# EAGLE library part AT32UC3C (library 1_spektrak)
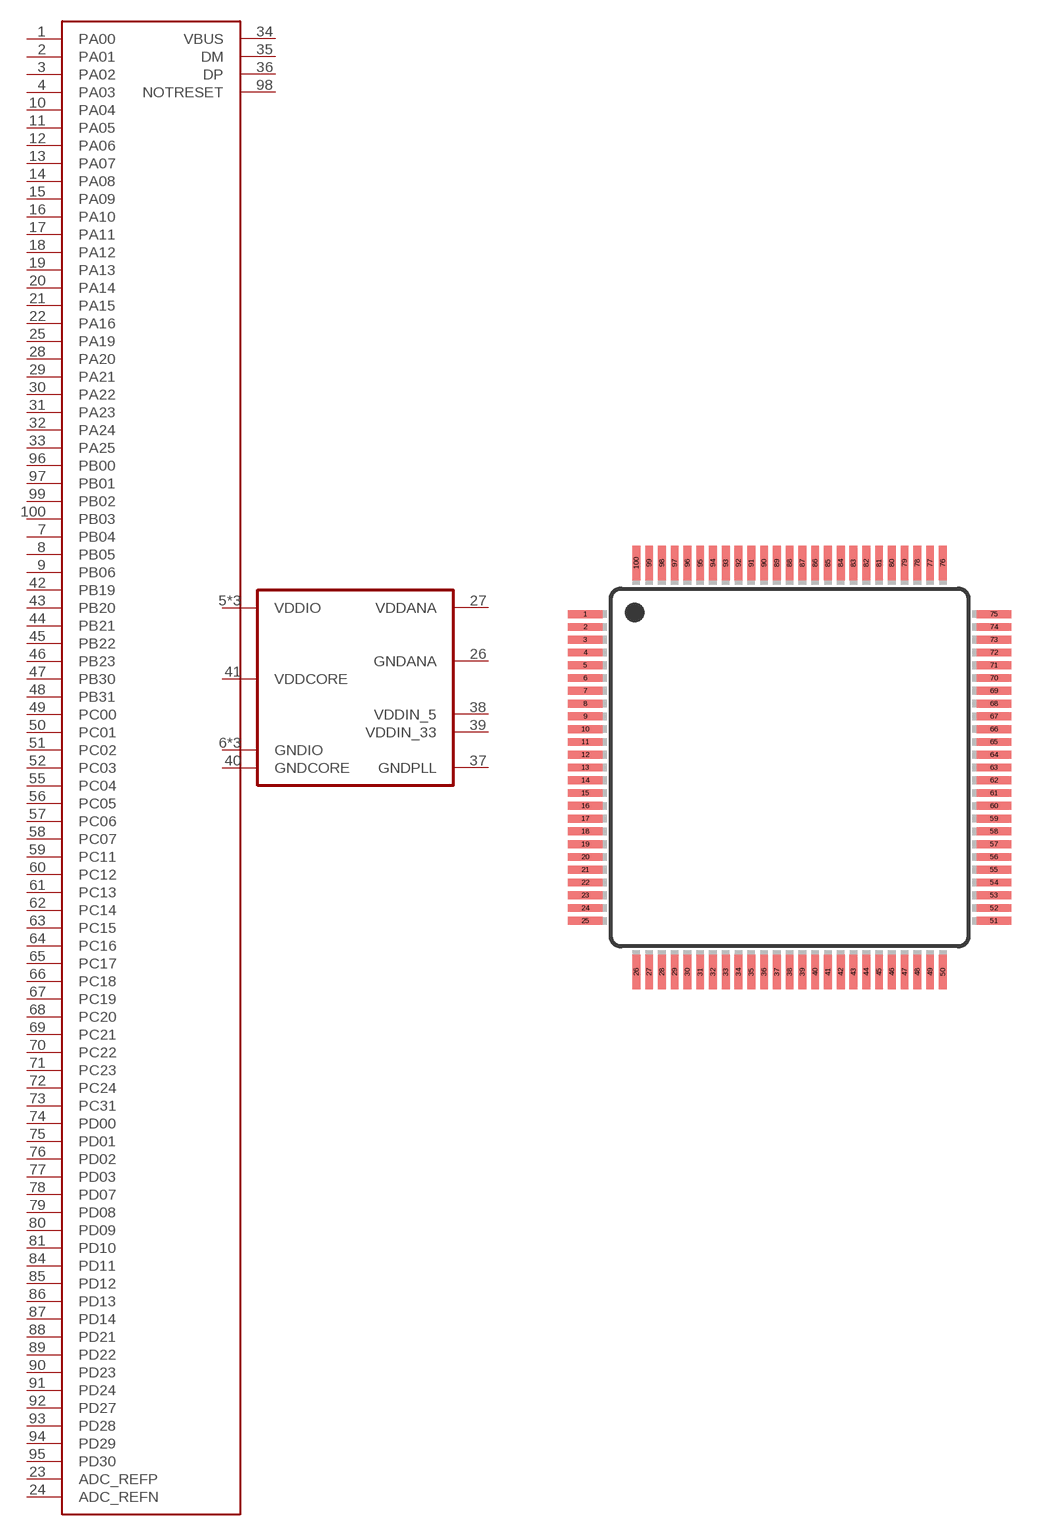
[diagram p4: symbol with the pads of TQFP100; footprint TQFP100]

Designator prefix IO; gates G=AT32UC3C1512 P=PWR_MCU

## AT32UC3C  [TQFP100]
1  G:PA00
2  G:PA01
3  G:PA02
4  G:PA03
5  P:VDDIO  pwr
6  P:GNDIO  pwr
7  G:PB04
8  G:PB05
9  G:PB06
10  G:PA04
11  G:PA05
12  G:PA06
13  G:PA07
14  G:PA08
15  G:PA09
16  G:PA10
17  G:PA11
18  G:PA12
19  G:PA13
20  G:PA14
21  G:PA15
22  G:PA16
23  G:ADC_REFP  in
24  G:ADC_REFN  in
25  G:PA19
26  P:GNDANA  pwr
27  P:VDDANA  pwr
28  G:PA20
29  G:PA21
30  G:PA22
31  G:PA23
32  G:PA24
33  G:PA25
34  G:VBUS
35  G:DM
36  G:DP
37  P:GNDPLL  pwr
38  P:VDDIN_5  pwr
39  P:VDDIN_33  pwr
40  P:GNDCORE  pwr
41  P:VDDCORE  pwr
42  G:PB19
43  G:PB20
44  G:PB21
45  G:PB22
46  G:PB23
47  G:PB30
48  G:PB31
49  G:PC00
50  G:PC01
51  G:PC02
52  G:PC03
53  P:VDDIO  pwr
54  P:GNDIO  pwr
55  G:PC04
56  G:PC05
57  G:PC06
58  G:PC07
59  G:PC11
60  G:PC12
61  G:PC13
62  G:PC14
63  G:PC15
64  G:PC16
65  G:PC17
66  G:PC18
67  G:PC19
68  G:PC20
69  G:PC21
70  G:PC22
71  G:PC23
72  G:PC24
73  G:PC31
74  G:PD00
75  G:PD01
76  G:PD02
77  G:PD03
78  G:PD07
79  G:PD08
80  G:PD09
81  G:PD10
82  P:VDDIO  pwr
83  P:GNDIO  pwr
84  G:PD11
85  G:PD12
86  G:PD13
87  G:PD14
88  G:PD21
89  G:PD22
90  G:PD23
91  G:PD24
92  G:PD27
93  G:PD28
94  G:PD29
95  G:PD30
96  G:PB00
97  G:PB01
98  G:NOTRESET  in
99  G:PB02
100  G:PB03

## Footprint TQFP100 (pad centres in mm)
100-lead Thin Quad Flat Pack Package
smd 1.346 x 0.305: 1 -8,6; 2 -8,5.5; 3 -8,5; 4 -8,4.5; 5 -8,4; 6 -8,3.5; 7 -8,3; 8 -8,2.5; 9 -8,2; 10 -8,1.5; 11 -8,1; 12 -8,0.5; 13 -8,0; 14 -8,-0.5; 15 -8,-1; 16 -8,-1.5; 17 -8,-2; 18 -8,-2.5; 19 -8,-3; 20 -8,-3.5; 21 -8,-4; 22 -8,-4.5; 23 -8,-5; 24 -8,-5.5; 25 -8,-6; 51 8,-6; 52 8,-5.5; 53 8,-5; 54 8,-4.5; 55 8,-4; 56 8,-3.5; 57 8,-3; 58 8,-2.5; 59 8,-2; 60 8,-1.5; 61 8,-1; 62 8,-0.5; 63 8,0; 64 8,0.5; 65 8,1; 66 8,1.5; 67 8,2; 68 8,2.5; 69 8,3; 70 8,3.5; 71 8,4; 72 8,4.5; 73 8,5; 74 8,5.5; 75 8,6
smd 0.305 x 1.346: 26 -6,-8; 27 -5.5,-8; 28 -5,-8; 29 -4.5,-8; 30 -4,-8; 31 -3.5,-8; 32 -3,-8; 33 -2.5,-8; 34 -2,-8; 35 -1.5,-8; 36 -1,-8; 37 -0.5,-8; 38 0,-8; 39 0.5,-8; 40 1,-8; 41 1.5,-8; 42 2,-8; 43 2.5,-8; 44 3,-8; 45 3.5,-8; 46 4,-8; 47 4.5,-8; 48 5,-8; 49 5.5,-8; 50 6,-8; 76 6,8; 77 5.5,8; 78 5,8; 79 4.5,8; 80 4,8; 81 3.5,8; 82 3,8; 83 2.5,8; 84 2,8; 85 1.5,8; 86 1,8; 87 0.5,8; 88 0,8; 89 -0.5,8; 90 -1,8; 91 -1.5,8; 92 -2,8; 93 -2.5,8; 94 -3,8; 95 -3.5,8; 96 -4,8; 97 -4.5,8; 98 -5,8; 99 -5.5,8; 100 -6,8